# EAGLE library part MCDHA-08TQR (library InterfaceParts)
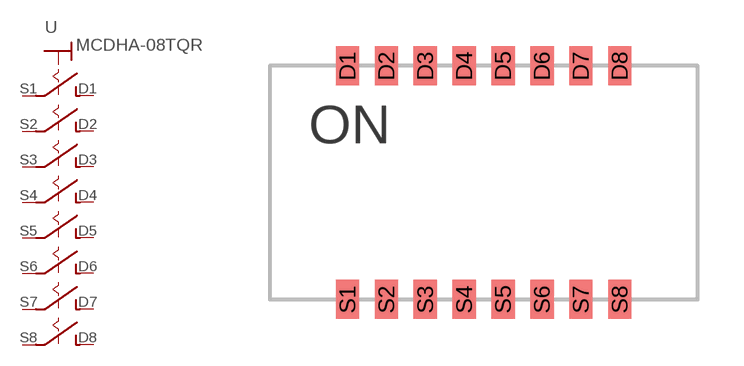
[diagram p5: symbol with the pads of DIPSWITCH8; footprint DIPSWITCH8]

Designator prefix -

## MCDHA-08TQR  [DIPSWITCH8]
D1  D1  pas
D2  D2  pas
D3  D3  pas
D4  D4  pas
D5  D5  pas
D6  D6  pas
D7  D7  pas
D8  D8  pas
S1  S1  pas
S2  S2  pas
S3  S3  pas
S4  S4  pas
S5  S5  pas
S6  S6  pas
S7  S7  pas
S8  S8  pas

## Footprint DIPSWITCH8 (pad centres in mm)
smd 0.76 x 1.27: D1 -3.81,3.81; D2 -2.54,3.81; D3 -1.27,3.81; D4 0,3.81; D5 1.27,3.81; D6 2.54,3.81; D7 3.81,3.81; D8 5.08,3.81; S1 -3.81,-3.81; S2 -2.54,-3.81; S3 -1.27,-3.81; S4 0,-3.81; S5 1.27,-3.81; S6 2.54,-3.81; S7 3.81,-3.81; S8 5.08,-3.81